# Altium footprint library TactileSwitch.PcbLib: 4 footprints
Each footprint in its own frame and in the unit in brackets; x right, y up, seen from the top. Pads: shape width x height; smd on the part's side, far side on the other; paste and mask are expansions set on the pad; w line width, h text height; cw(c..) or ccw(c..) is an arc to the next point about the centre after c.
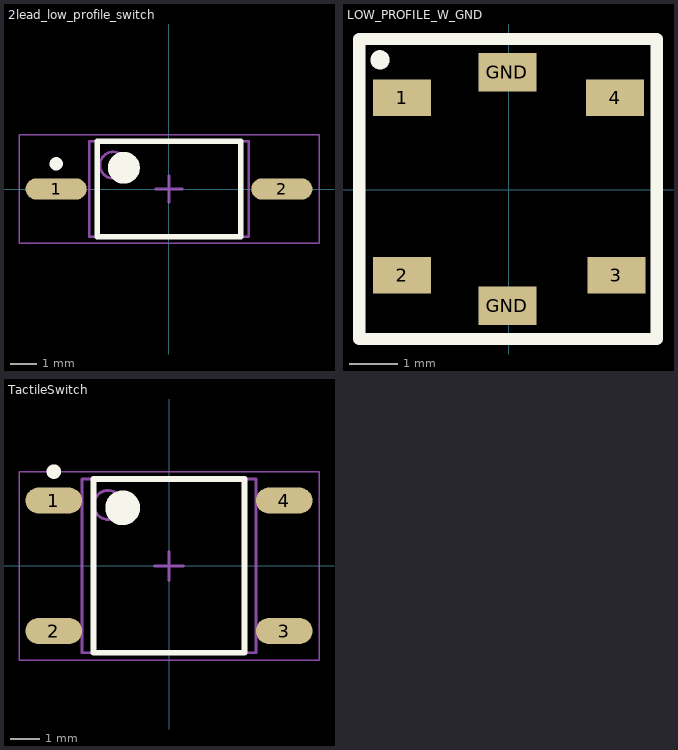
[diagram p0: the footprints below, top view; thin cyan lines are the x and y axes]

## 2lead_low_profile_switch [mm] "CFP, 2-Leads, Body 3.60x6.00mm (max), Pitch 0.00mm, IPC Medium Density"
height 2.5
pads (2):
  oval 2.3x0.8 smd: 1(-4.25,0) 2(4.25,0)
Top Overlay:
  circle w0.25: c-4.25,0.95 r0.125
  circle w0.6: c-1.7,0.8 r0.3
  lines w0.2: -2.7,-1.8 2.7,-1.8 2.7,1.8 -2.7,1.8 -2.7,-1.8
Mechanical 13:
  circle w0.1: c-2.1,0.9 r0.5
  lines w0.1: -3,-1.8 3,-1.8 3,1.8 -3,1.8 -3,-1.8
Mechanical 15:
  lines w0.05: -5.65,-2.05 5.65,-2.05 5.65,2.05 -5.65,2.05 -5.65,-2.05
  lines w0.1: -0.5,0 0.5,0 ; 0,-0.5 0,0.5
3D body: height 2.5, standoff 0, extent -3,-1.8 3,1.8

## LOW_PROFILE_W_GND [mm]
height 1.5
pads (6):
  rect 1.2x0.75 smd: 1(-2.21,1.905) 2(-2.21,-1.778) 3(2.235,-1.778) 4(2.21,1.905)
  rect 1.2x0.8 smd: GND(-0.025,-2.413) GND(-0.025,2.438)
Top Overlay:
  circle w0.2: c-2.667,2.692 r0.1
  lines w0.254: -3.099,-3.099 3.073,-3.099 3.073,3.124 -3.099,3.124 -3.099,-3.099
3D body: height 1.2, standoff 0, extent -2.515,-2.515 2.515,2.515
3D body: height 1.5, standoff 1.2, extent -1.194,-1.194 1.194,1.194

## PCBComponent_1 - duplicate [mm]

## TactileSwitch [mm] "SOP, 4-Leads, Body 6.00x6.00mm, Pitch 4.50mm, IPC Medium Density"
height 4.4
pads (4):
  oval 1.95x0.9 smd: 1(-3.975,2.25) 2(-3.975,-2.25) 3(3.975,-2.25) 4(3.975,2.25)
Top Overlay:
  circle w0.25: c-3.975,3.25 r0.125
  circle w0.6: c-1.6,2 r0.3
  lines w0.2: -2.6,-3 -2.6,3 2.6,3 2.6,-3 -2.6,-3
Mechanical 13:
  circle w0.1: c-2.1,2.1 r0.5
  lines w0.1: -3,-3 -3,3 3,3 3,-3 -3,-3
Mechanical 15:
  lines w0.05: -5.175,-3.25 -5.175,3.25 5.175,3.25 5.175,-3.25 -5.175,-3.25
  lines w0.1: -0.5,0 0.5,0 ; 0,-0.5 0,0.5
3D body: height 4.4, standoff 0, extent -3,-3 3,3